# Altium footprint library relay.PcbLib: 1 footprints
Each footprint in its own frame and in the unit in brackets; x right, y up, seen from the top. Pads: shape width x height; smd on the part's side, far side on the other; paste and mask are expansions set on the pad; w line width, h text height; cw(c..) or ccw(c..) is an arc to the next point about the centre after c.
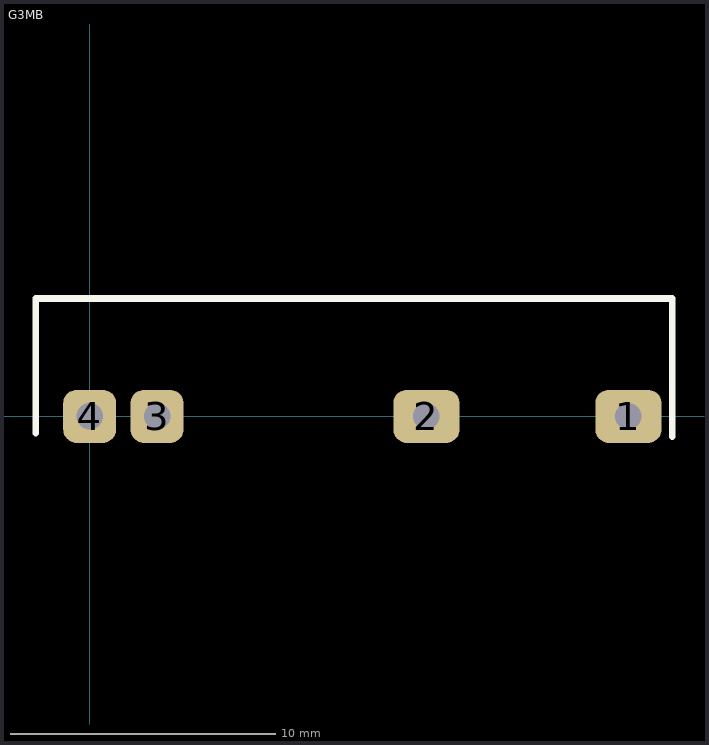
[diagram p0: the footprint, top view; thin cyan lines are the x and y axes]

## G3MB [mm]
pads (4):
  rrect50% 2.5x2 hole 1: 1(20.32,0) 2(12.7,0)
  rrect50% 2x2 hole 1: 3(2.54,0) 4(0,0)
Top Overlay:
  lines w0.254: -2.032,-0.635 -2.032,4.445 21.971,4.445 21.971,-0.762
3D body "Relay - G3MB-202P.stp": height 20.74, standoff -3.32, extent -2.032,-0.762 22.022,4.318